# EAGLE library part ESP-03 (library Mine)
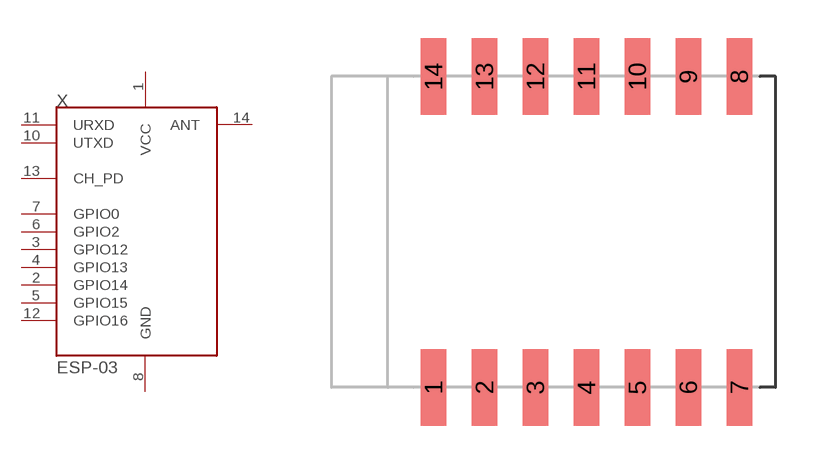
[diagram p77: symbol with the pads of ESP-03; footprint ESP-03]

Designator prefix X

## ESP-03  [ESP-03]
1  VCC  sup
2  GPIO14
3  GPIO12
4  GPIO13
5  GPIO15
6  GPIO2
7  GPIO0
8  GND  sup
10  UTXD  out
11  URXD  in
12  GPIO16
13  CH_PD  in
14  ANT

## Footprint ESP-03 (pad centres in mm)
smd 1 x 3: 1 -13.4,0; 2 -11.4,0; 3 -9.4,0; 4 -7.4,0; 5 -5.4,0; 6 -3.4,0; 7 -1.4,0; 8 -1.4,12.2; 9 -3.4,12.2; 10 -5.4,12.2; 11 -7.4,12.2; 12 -9.4,12.2; 13 -11.4,12.2; 14 -13.4,12.2